# Altium schematic symbol library 132203.SchLib: 1 symbol
Pins are listed as number, name and electrical type; pins without a type are passive.

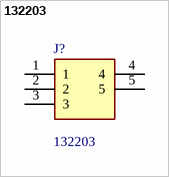
[diagram p0: symbol 132203]

## 132203
designator J?
SMA Connector Jack, Female Socket 50 Ohms Panel Mount, Through Hole, Right Angle Solder; Manufacturer_Name: Amphenol RF; Geometry.Height: 10.64mm; Manufacturer_Part_Number: 132203; Mouser Part Number: *; Mouser Price/Stock: *; Arrow Part Number: 132203; Arrow Price/Stock: https://www.arrow.com/en/products/132203/amphenol-rf?utm_currency=USD&region=nac; Datasheet Link: https://s3-us-west-2.amazonaws.com/catsy.582/C132203.pdf
footprint 132203
pins: 1, 2, 3, 4, 5